# EAGLE library part ADG904BCPZ (library Analog Devices)
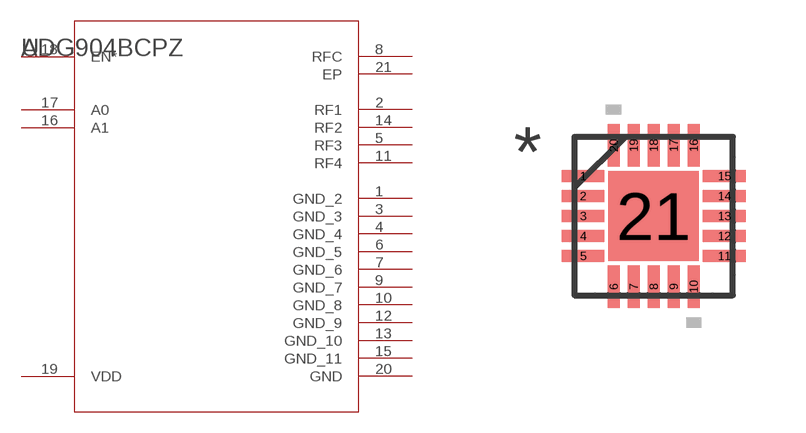
[diagram p8: symbol with the pads of CP_20_1; footprint CP_20_1]

Designator prefix U

## ADG904BCPZ  [CP_20_1]
1  GND_2  pas
2  RF1  pwr
3  GND_3  pas
4  GND_4  pas
5  RF3  pas
6  GND_5  pas
7  GND_6  pas
8  RFC  pas
9  GND_7  pas
10  GND_8  pas
11  RF4  pas
12  GND_9  pas
13  GND_10  pas
14  RF2  pas
15  GND_11  pas
16  A1  pas
17  A0  pas
18  EN*  pas
19  VDD  pas
20  GND  pas
21  EP  pas

## Footprint CP_20_1 (pad centres in mm)
smd 1.067 x 0.305: 1 -1.765,1; 2 -1.765,0.5; 3 -1.765,0; 4 -1.765,-0.5; 5 -1.765,-1; 11 1.765,-1; 12 1.765,-0.5; 13 1.765,0; 14 1.765,0.5; 15 1.765,1
smd 0.305 x 1.067: 6 -1,-1.765; 7 -0.5,-1.765; 8 0,-1.765; 9 0.5,-1.765; 10 1,-1.765; 16 1,1.765; 17 0.5,1.765; 18 0,1.765; 19 -0.5,1.765; 20 -1,1.765
smd 2.261 x 2.261: 21 0,0